# EAGLE library part AP3419 (library marius)
AP3419 Buck Regulator. NOTE: BST is not used on this device, leave NC.
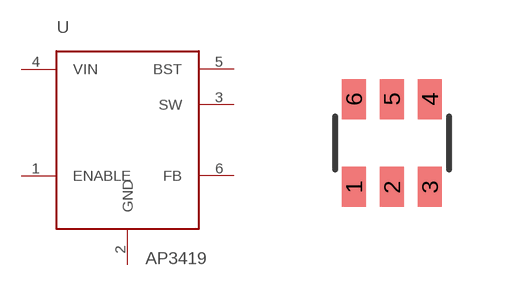
[diagram p2: symbol with the pads of TSOT26; footprint TSOT26]

Designator prefix -

## AP3419 (MPN: AP3419KTTR-G1)  [TSOT26]
1  ENABLE
2  GND
3  SW
4  VIN
5  BST
6  FB

## Footprint TSOT26 (pad centres in mm)
SOT-23
smd 0.6 x 1: 1 -0.95,-1.099; 2 0,-1.099; 3 0.95,-1.099; 4 0.95,1.099; 5 0,1.099; 6 -0.95,1.099